# EAGLE library part LP5996SD-1833 (library C3-Ti)
LP5996 Dual Linear Regulator with 300mA and 150mA Outputs Datasheet <http://www.ti.com/lit/ds/symlink/lp5996.pdf>
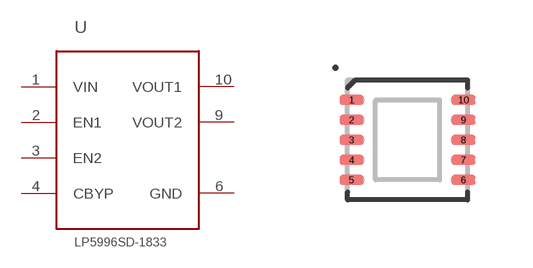
[diagram p9: symbol with the pads of DSC-S-PWSON-N10; footprint DSC-S-PWSON-N10]

Designator prefix U

## LP5996SD-1833  [DSC-S-PWSON-N10]
1  VIN  pwr
2  EN1  in
3  EN2  in
4  CBYP  pas
6  GND  pwr
9  VOUT2  sup
10  VOUT1  sup

## Footprint DSC-S-PWSON-N10 (pad centres in mm)
DSC0010A WSON-10 Drawing Page 16 <http://www.ti.com/lit/ds/symlink/lm10010.pdf>
smd 0.6 x 0.25: 1 -1.4,1; 2 -1.4,0.5; 3 -1.4,0; 4 -1.4,-0.5; 5 -1.4,-1; 6 1.4,-1; 7 1.4,-0.5; 8 1.4,0; 9 1.4,0.5; 10 1.4,1